# Altium footprint library SQT11001LD.PcbLib: 1 footprints
Each footprint in its own frame and in the unit in brackets; x right, y up, seen from the top. Pads: shape width x height; smd on the part's side, far side on the other; paste and mask are expansions set on the pad; w line width, h text height; cw(c..) or ccw(c..) is an arc to the next point about the centre after c.
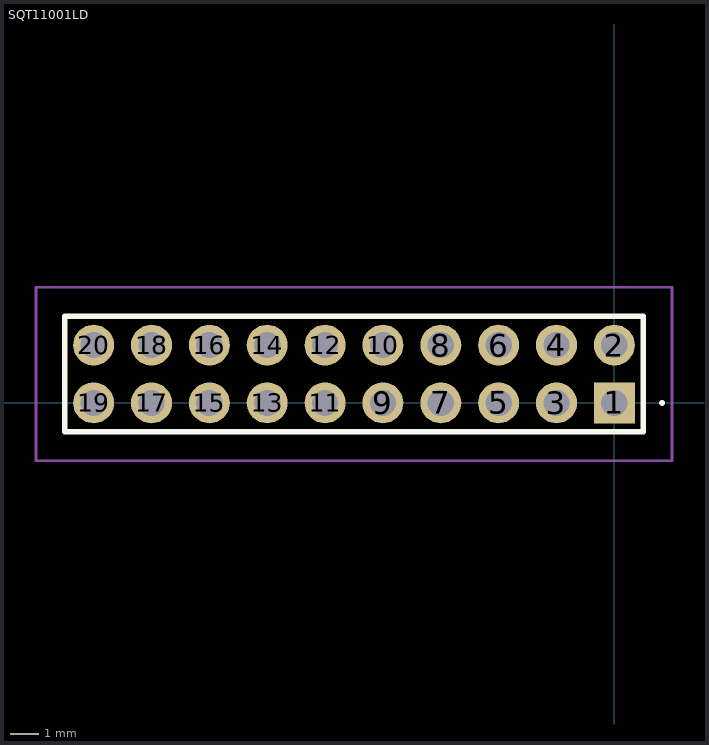
[diagram p0: the footprint, top view; thin cyan lines are the x and y axes]

## SQT11001LD [mm]
pads (20):
  rect 1.416x1.416 hole 0.91: 1(0,0)
  round 1.416 hole 0.91: 2(0,2) 3(-2,0) 4(-2,2) 5(-4,0) 6(-4,2) 7(-6,0) 8(-6,2) 9(-8,0) 10(-8,2) 11(-10,0) 12(-10,2) 13(-12,0) 14(-12,2) 15(-14,0) 16(-14,2) 17(-16,0) 18(-16,2) 19(-18,0) 20(-18,2)
Top Overlay:
  lines w0.1: 1.6,0 cw(c1.65,0) 1.7,0 ; 1.6,0 1.6,0 ; 1.6,0 ccw(c1.65,0) 1.7,0 ; 1.6,0 cw(c1.65,0) 1.7,0 ; 1.7,0 1.7,0 ; 1.7,0 1.7,0
  lines w0.2: -19,-1 -19,3 1,3 1,-1 -19,-1
Mechanical 15:
  lines w0.1: -19,-1 1,-1 1,3 -19,3 -19,-1
Mechanical 20:
  lines w0.1: -20,-2 2,-2 2,4 -20,4 -20,-2